# Altium schematic symbol library Joystiks.SchLib: 1 symbol
Pins are listed as number, name and electrical type; pins without a type are passive.

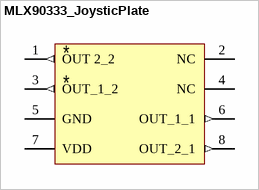
[diagram p0: symbol MLX90333_JoysticPlate]

## MLX90333_JoysticPlate
designator *
footprint MLX90333_Joy
pins: 1 OUT 2_2 (out), 2 NC (power), 3 OUT_1_2 (out), 4 NC (power), 5 GND (power), 6 OUT_1_1 (out), 7 VDD (power), 8 OUT_2_1 (out)